# Altium footprint library 0201 Capacitor.PcbLib: 1 footprints
Each footprint in its own frame and in the unit in brackets; x right, y up, seen from the top. Pads: shape width x height; smd on the part's side, far side on the other; paste and mask are expansions set on the pad; w line width, h text height; cw(c..) or ccw(c..) is an arc to the next point about the centre after c.
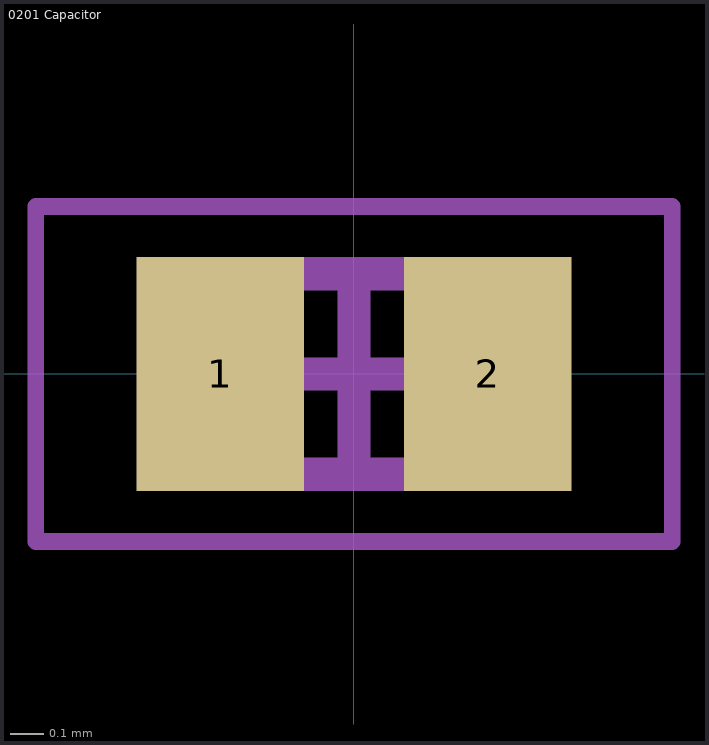
[diagram p0: the footprint, top view; thin cyan lines are the x and y axes]

## 0201 Capacitor [mm] "Chip Capacitor, 2-Leads, Body 0.75x0.40mm, IPC Medium Density"
height 0.6
pads (2):
  rect 0.5x0.7 smd: 1(-0.4,0) 2(0.4,0)
Mechanical 13:
  lines w0.1: -0.55,-0.3 -0.55,0.3 0.55,0.3 0.55,-0.3 -0.55,-0.3
Mechanical 15:
  lines w0.05: -0.95,-0.5 -0.95,0.5 0.95,0.5 0.95,-0.5 -0.95,-0.5
  lines w0.1: -0.3,0 0.3,0 ; 0,-0.3 0,0.3
3D body: height 0.6, standoff 0, extent -0.35,-0.3 0.35,0.3
3D body: height 0.6, standoff 0, extent -0.55,-0.3 -0.35,0.3
3D body: height 0.6, standoff 0, extent 0.35,-0.3 0.55,0.3